# Altium schematic symbol library Tag201.SCHLIB: 9 symbols
Pins are listed as number, name and electrical type; pins without a type are passive.

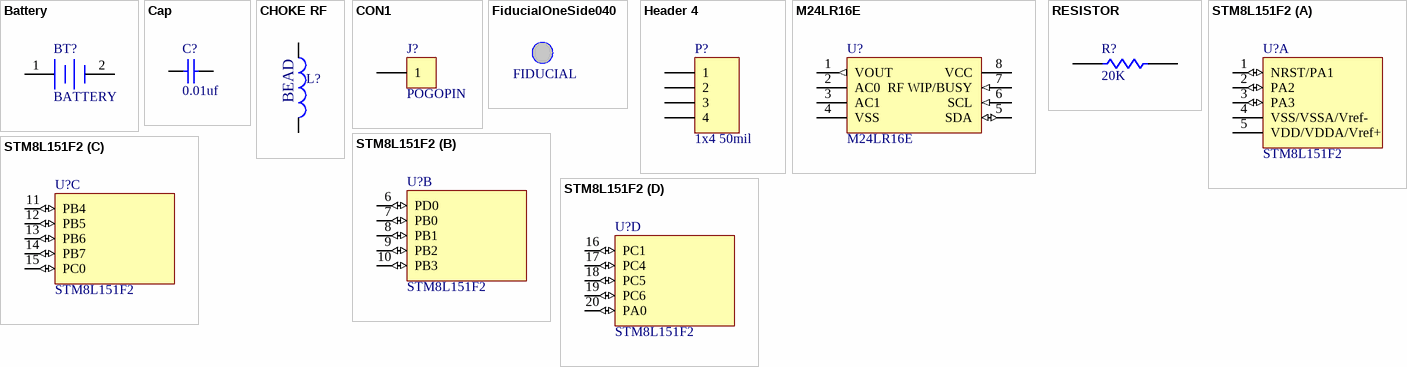
[diagram p0: symbols Battery to STM8L151F2]

## Battery
designator BT?, comment BATTERY
Multicell Battery; PARTNO: BLP2032SM-GTR; MFG: MPD; DK: BLP2032SM-GTR-ND; VALUE: BATTERY
footprint COINCELL_070911 (SMT)
pins: 1 +, 2 -

## Cap
designator C?, comment 0.01uf
Capacitor; PARTNO: C1608X7R1E103K; MAN: TDK; VALUE: 0.01uf; DK: 445-5100-1-ND
footprint 0603_072205 (SM)
pins: 1, 2

## CHOKE RF
designator L?, comment BEAD
COIL CHOKE 1UH SHIELDED SMD; MFG: Murata; MFG_PN: BLM18PG121SN1D; VALUE: BEAD; SUPPLIER: DigiKey; SUPPLIER_PN: 490-1037-1-ND
footprint 0603_072205 (SM)
pins: 1, 2

## CON1
designator J?, comment POGOPIN
Connector; VALUE: POGOPIN
footprint MOUNTING_PAD (TH)
pins: 1

## FiducialOneSide040
designator FID?, comment FIDUCIAL
PARTNO: N/A; VALUE: FIDUCIAL
footprint FiducialTwoSide_020205 (FEATURE SMT PCB)
pins: 0

## Header 4
designator P?, comment 1x4 50mil
Header, 4-Pin; VALUE: 1x4 50mil
footprint 1X4 HEADER_50mil_071411 (TH)
pins: 1, 2, 3, 4

## M24LR16E
designator U?
VALUE: M24LR16E
footprint TSSOP08_022410 (SMT)
pins: 1 VOUT (out), 2 AC0, 3 AC1, 4 VSS (power), 5 SDA (io), 6 SCL (in), 7 RF WIP/BUSY (in), 8 VCC (power)

## RESISTOR
designator R?, comment 20K
PARTNO: RC0603FR-0720KL; MAN: Yageo; VALUE: 20K; DK: 311-20.0KHRCT-ND
footprint 0603_072205 (SM)
pins: 1, 2

## STM8L151F2
designator U?
VALUE: STM8L151F2
footprint UFQFPN20_071011 (SMT)
part A pins: 1 NRST/PA1 (io), 2 PA2 (io), 3 PA3 (io), 4 VSS/VSSA/Vref- (power), 5 VDD/VDDA/Vref+ (power)
part B pins: 6 PD0 (io), 7 PB0 (io), 8 PB1 (io), 9 PB2 (io), 10 PB3 (io)
part C pins: 11 PB4 (io), 12 PB5 (io), 13 PB6 (io), 14 PB7 (io), 15 PC0 (io)
part D pins: 16 PC1 (io), 17 PC4 (io), 18 PC5 (io), 19 PC6 (io), 20 PA0 (io)